# EAGLE library part SP6887ER4-L (library Exar_By_element14_Batch_1)
4 CHANNEL REGULATED CHARGE PUMP WLED DRIVER
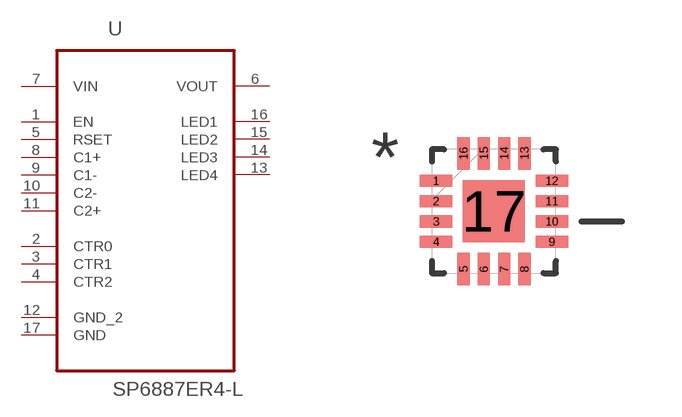
[diagram p58: symbol with the pads of QFN50P300X300X80-17N; footprint QFN50P300X300X80-17N]

Designator prefix U

## SP6887ER4-L (MANUFACTURER: SP6887ER4-L; OC_FARNELL: 1829404; OC_NEWARK: 24R1077; PACKAGE: QFN-16; SUPPLIER: EXAR)  [QFN50P300X300X80-17N]
1  EN  in
2  CTR0  in
3  CTR1  in
4  CTR2  in
5  RSET  in
6  VOUT  out
7  VIN  pwr
8  C1+  pas
9  C1-  pas
10  C2-  pas
11  C2+  pas
12  GND_2  pas
13  LED4  out
14  LED3  out
15  LED2  out
16  LED1  out
17  GND  pas

## Footprint QFN50P300X300X80-17N (pad centres in mm)
smd 0.813 x 0.305: 1 -1.448,0.762; 2 -1.448,0.254; 3 -1.448,-0.254; 4 -1.448,-0.762; 9 1.448,-0.762; 10 1.448,-0.254; 11 1.448,0.254; 12 1.448,0.762
smd 0.305 x 0.813: 5 -0.762,-1.448; 6 -0.254,-1.448; 7 0.254,-1.448; 8 0.762,-1.448; 13 0.762,1.448; 14 0.254,1.448; 15 -0.254,1.448; 16 -0.762,1.448
smd 1.549 x 1.549: 17 0,0